# EAGLE library part MAX22200AETJ+ (library MAX22200AETJ+)
Motor/Motion/Ignition Controllers & Drivers 36V, 1A Octal Integrated Serial-Controll Source: Datasheet <https://www.analog.com/media/en/technical-documentation/data-sheets/MAX22200.pdf>
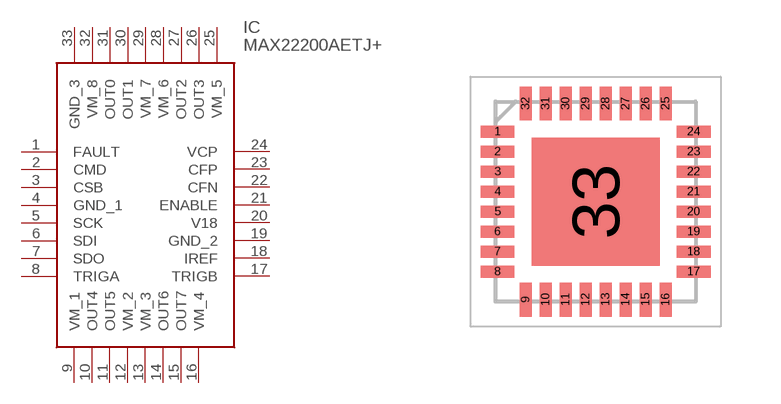
[diagram p0: symbol with the pads of QFN50P500X500X80-33N; footprint QFN50P500X500X80-33N]

Designator prefix IC

## MAX22200AETJ+ (Arrow_Part_Number: MAX22200AETJ+; Arrow_Price-Stock: https://www.arrow.com/en/products/max22200aetj/analog-devices?utm_currency=USD&region=nac; Description: Motor/Motion/Ignition Controllers & Drivers 36V, 1A Octal Integrated Serial-Controll; Height: 0.8mm; Manufacturer_Name: Analog Devices; Manufacturer_Part_Number: MAX22200AETJ+)  [QFN50P500X500X80-33N]
1  FAULT
2  CMD
3  CSB
4  GND_1
5  SCK
6  SDI
7  SDO
8  TRIGA
9  VM_1
10  OUT4
11  OUT5
12  VM_2
13  VM_3
14  OUT6
15  OUT7
16  VM_4
17  TRIGB
18  IREF
19  GND_2
20  V18
21  ENABLE
22  CFN
23  CFP
24  VCP
25  VM_5
26  OUT3
27  OUT2
28  VM_6
29  VM_7
30  OUT1
31  OUT0
32  VM_8
33  GND_3

## Footprint QFN50P500X500X80-33N (pad centres in mm)
T3255+8C_2023
smd 0.85 x 0.3: 1 -2.45,1.75; 2 -2.45,1.25; 3 -2.45,0.75; 4 -2.45,0.25; 5 -2.45,-0.25; 6 -2.45,-0.75; 7 -2.45,-1.25; 8 -2.45,-1.75; 17 2.45,-1.75; 18 2.45,-1.25; 19 2.45,-0.75; 20 2.45,-0.25; 21 2.45,0.25; 22 2.45,0.75; 23 2.45,1.25; 24 2.45,1.75
smd 0.3 x 0.85: 9 -1.75,-2.45; 10 -1.25,-2.45; 11 -0.75,-2.45; 12 -0.25,-2.45; 13 0.25,-2.45; 14 0.75,-2.45; 15 1.25,-2.45; 16 1.75,-2.45; 25 1.75,2.45; 26 1.25,2.45; 27 0.75,2.45; 28 0.25,2.45; 29 -0.25,2.45; 30 -0.75,2.45; 31 -1.25,2.45; 32 -1.75,2.45
smd 3.2 x 3.2: 33 0,0